# Altium schematic symbol library RC0603FR-0747KL.SchLib: 1 symbol
Pins are listed as number, name and electrical type; pins without a type are passive.

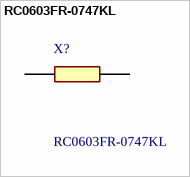
[diagram p0: symbol RC0603FR-0747KL]

## RC0603FR-0747KL
designator X?
YAGEO (PHYCOMP) - RC0603FR-0747KL - RES, THICK FILM, 47K, 1%, 0.1W, 0603; Manufacturer_Name: KEMET; Geometry.Height: 0.55mm; Manufacturer_Part_Number: RC0603FR-0747KL; Mouser Part Number: 603-RC0603FR-0747KL; Mouser Price/Stock: https://www.mouser.co.uk/ProductDetail/YAGEO/RC0603FR-0747KL?qs=gt6vzsuosg3jXzmCiDCCdg%3D%3D; Arrow Part Number: RC0603FR-0747KL; Arrow Price/Stock: https://www.arrow.com/en/products/rc0603fr-0747kl/yageo?region=nac; Datasheet Link: http://www.yageo.com/documents/recent/PYu-RC0603_51_RoHS_L_v5.pdf
footprint RESC1608X55N
pins: 1, 2